# Altium schematic symbol library MergenElektronik_Screens_LCDs.SchLib: 1 symbol
Pins are listed as number, name and electrical type; pins without a type are passive.

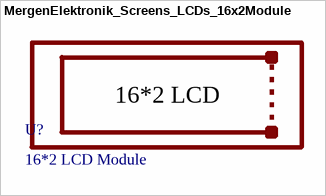
[diagram p0: symbol MergenElektronik_Screens_LCDs_16x2Module]

## MergenElektronik_Screens_LCDs_16x2Module
designator U?, comment 16*2 LCD Module
Mergen Elektronik - Screens - LCDs - 16x2 Module
footprint MergenElektronik_Screens_LCDs_16x2Module (16*2 LCD Module with Allen)
text: 16*2 LCD